# EAGLE library part RJMG-6312-81-01 (library rjmg-6xxx-8x-01)
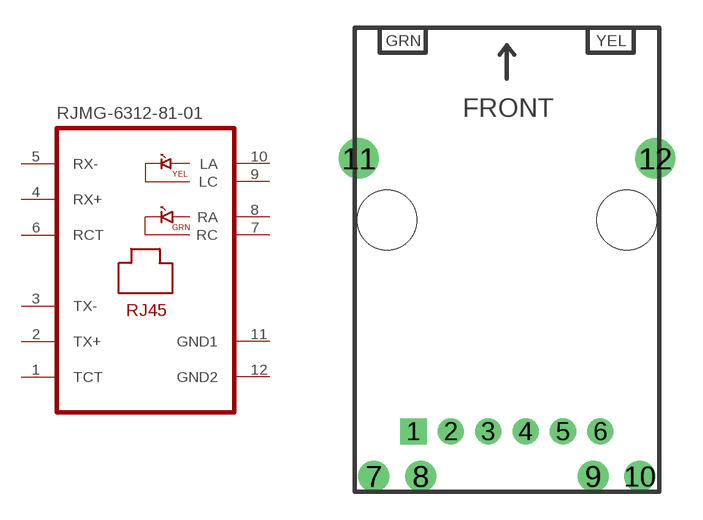
[diagram p0: symbol with the pads of RJMG-6312-81-01; footprint RJMG-6312-81-01]

Designator prefix -

## RJMG-6312-81-01  [RJMG-6312-81-01]
1  TCT
2  TX+
3  TX-
4  RX+
5  RX-
6  RCT
7  RC
8  RA
9  LC
10  LA
11  GND1
12  GND2

## Footprint RJMG-6312-81-01 (pad centres in mm)
drill 0.8 pad 1.422 square: 1 -5.062,-9.2
drill 0.8 pad 1.422 round: 2 -3.032,-9.2; 3 -1.002,-9.2; 4 1.038,-9.2; 5 3.068,-9.2; 6 5.098,-9.2
drill 1 pad 1.676 round: 7 -7.212,-11.65; 8 -4.672,-11.65; 9 4.708,-11.65; 10 7.248,-11.65
drill 1.2 pad 2.184 round: 11 -8.04,5.65; 12 8.08,5.65